# EAGLE library part LMP7721MA/NOPB (library openag-sensors)
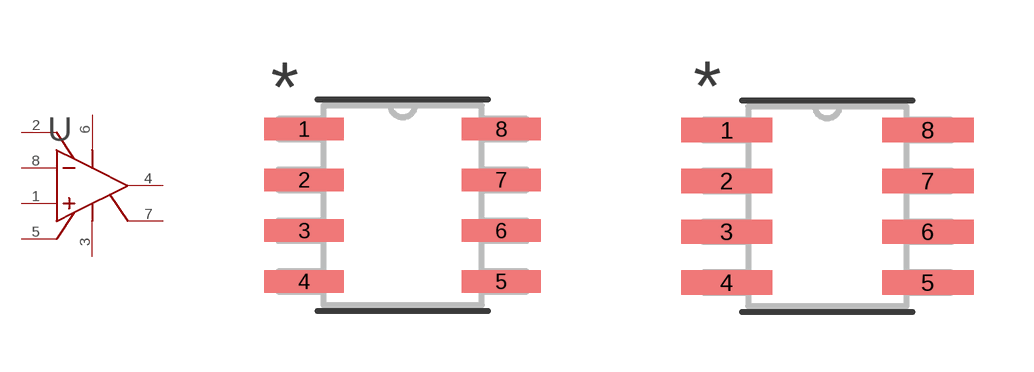
[diagram p4: symbol with the pads of M08A; footprints M08A, M08A-M]

Designator prefix U

## LMP7721MA/NOPB (MANUFACTURER_PART_NUMBER: LMP7721MANOPB; VENDOR: Texas Instruments)  [M08A]
1  IN+  in
2  NC  pas
3  V-  pwr
4  OUT  out
5  NC_3  pas
6  V+  pwr
7  NC_2  pas
8  IN-  in

## LMP7721MA/NOPBM08A-M (MANUFACTURER_PART_NUMBER: LMP7721MANOPB; VENDOR: Texas Instruments)  [M08A-M]
Pads as for M08A

## LMP7721MA/NOPBM08A-L (MANUFACTURER_PART_NUMBER: LMP7721MANOPB; VENDOR: Texas Instruments)  [M08A-L]
Pads as for M08A

## Footprint M08A (pad centres in mm)
smd 1.981 x 0.559: 1 -2.464,1.905; 2 -2.464,0.635; 3 -2.464,-0.635; 4 -2.464,-1.905; 5 2.464,-1.905; 6 2.464,-0.635; 7 2.464,0.635; 8 2.464,1.905

## Footprint M08A-M (pad centres in mm)
smd 2.286 x 0.61: 1 -2.515,1.905; 2 -2.515,0.635; 3 -2.515,-0.635; 4 -2.515,-1.905; 5 2.515,-1.905; 6 2.515,-0.635; 7 2.515,0.635; 8 2.515,1.905

## Footprint M08A-L (pad centres in mm)
smd 1.676 x 0.508: 1 -2.413,1.905; 2 -2.413,0.635; 3 -2.413,-0.635; 4 -2.413,-1.905; 5 2.413,-1.905; 6 2.413,-0.635; 7 2.413,0.635; 8 2.413,1.905